# Altium footprint library PCB - LEADLESS - QFN - ST QFN-12L 3X3MM.PcbLib: 1 footprints
Each footprint in its own frame and in the unit in brackets; x right, y up, seen from the top. Pads: shape width x height; smd on the part's side, far side on the other; paste and mask are expansions set on the pad; w line width, h text height; cw(c..) or ccw(c..) is an arc to the next point about the centre after c.
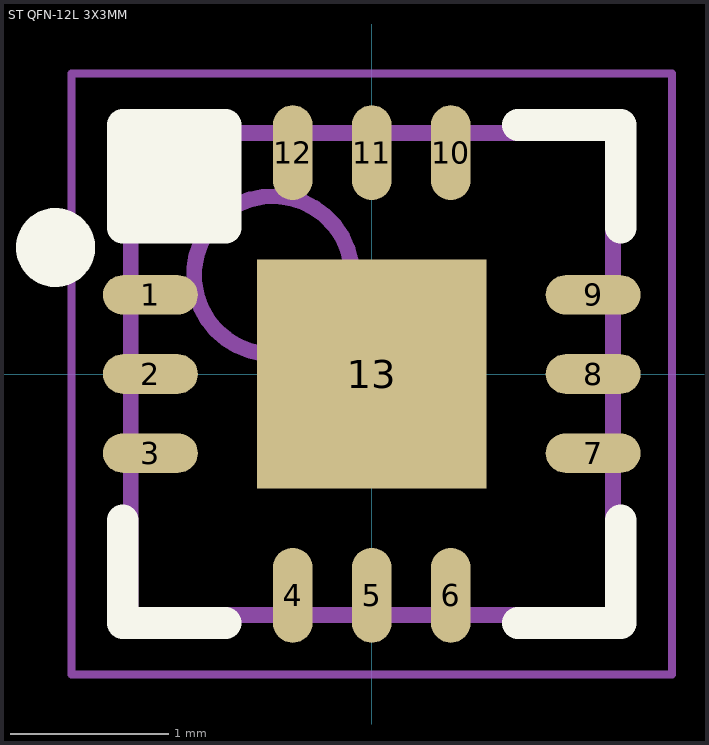
[diagram p0: the footprint, top view; thin cyan lines are the x and y axes]

## ST QFN-12L 3X3MM [mm] "QFN, 12-Leads, Body 3.00x3.00mm, Pitch 0.50mm, Thermal Pad 1.45x1.45mm"
height 1
pads (13):
  oval 0.6x0.25 smd: 1(-1.4,0.5) 2(-1.4,0) 3(-1.4,-0.5) 7(1.4,-0.5) 8(1.4,0) 9(1.4,0.5)
  oval 0.25x0.6 smd: 4(-0.5,-1.4) 5(0,-1.4) 6(0.5,-1.4) 10(0.5,1.4) 11(0,1.4) 12(-0.5,1.4)
  rect 1.45x1.45 smd: 13(0,0)
Top Overlay:
  circle w0.25: c-2,0.8 r0.125
  rectangle: -1.575,0.925 -0.925,1.575
  lines w0.2: -1.575,-0.925 -1.575,-1.575 -0.925,-1.575 ; 0.925,-1.575 1.575,-1.575 1.575,-0.925 ; 0.925,1.575 1.575,1.575 1.575,0.925 ; -1.575,0.925 -0.925,0.925 -0.925,1.575 -1.575,1.575 -1.575,0.925
Mechanical 13:
  circle w0.1: c-0.625,0.625 r0.5
  lines w0.1: -1.525,-1.525 -1.525,1.525 1.525,1.525 1.525,-1.525 -1.525,-1.525
Mechanical 15:
  lines w0.05: -1.9,-1.9 -1.9,1.9 1.9,1.9 1.9,-1.9 -1.9,-1.9
  lines w0.1: -0.5,0 0.5,0 ; 0,-0.5 0,0.5
3D body "ST QFN-12L 3X3MM.step": height 1, standoff 0, extent -1.535,-1.535 1.535,1.535